# Altium footprint library PcbLib1.PcbLib: 4 footprints
Each footprint in its own frame and in the unit in brackets; x right, y up, seen from the top. Pads: shape width x height; smd on the part's side, far side on the other; paste and mask are expansions set on the pad; w line width, h text height; cw(c..) or ccw(c..) is an arc to the next point about the centre after c.
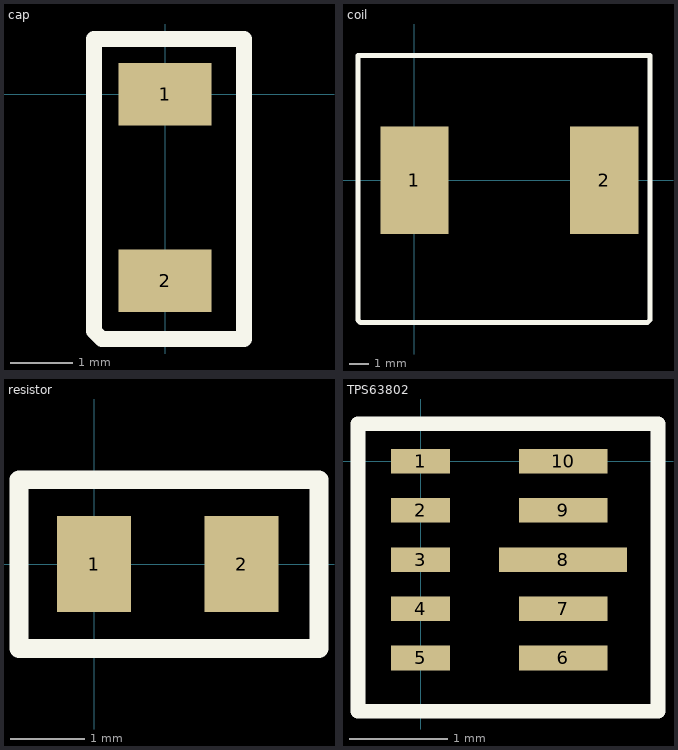
[diagram p0: the footprints below, top view; thin cyan lines are the x and y axes]

## cap [mm]
pads (2):
  rect 1.5x1 smd: 1(0,0) 2(0,-3)
Top Overlay:
  lines w0.254: -1.143,-3.81 -1.016,-3.937 1.27,-3.937 1.27,0.889 -1.143,0.889 -1.143,-3.81
3D body "70095713.stp": height 1.8, standoff 0, extent -0.911,-3.224 0.889,0.176

## coil [mm]
pads (2):
  rect 3.53x5.57 smd: 1(0,0) 2(9.83,0)
Top Overlay:
  lines w0.254: -2.921,-7.239 -2.794,-7.366 12.065,-7.366 12.192,-7.239 12.192,6.477 -2.921,6.477 -2.921,-7.239
3D body "pm127sh-330m-rc.stp": height 7.5, standoff 0, extent -1.424,-6.504 11.076,5.996

## resistor [mm]
pads (2):
  rect 1x1.3 smd: 1(0,0) 2(2,0)
Top Overlay:
  lines w0.254: -1.016,-1.143 3.048,-1.143 3.048,1.143 -1.016,1.143 -1.016,-1.143
3D body "resistor0805.stp": height 0.8, standoff 0, extent 0.016,-0.498 2.016,0.752

## TPS63802 [mm]
pads (10):
  rect 0.6x0.25 smd: 1(0,0) 2(0,-0.5) 3(0,-1) 4(0,-1.5) 5(0,-2)
  rect 0.9x0.25 smd: 6(1.45,-2) 7(1.45,-1.5) 9(1.45,-0.5) 10(1.45,0)
  rect 1.3x0.25 smd: 8(1.45,-1)
Top Overlay:
  lines w0.15: -0.635,-2.54 2.413,-2.54 2.413,0.381 -0.635,0.381 -0.635,-2.54
3D body "User Library-TPS63802.STEP": height 1, standoff -0.01, extent -0.111,-2.492 1.889,0.508